# Altium schematic symbol library DSWB06LHGET.SCHLIB: 1 symbol
Pins are listed as number, name and electrical type; pins without a type are passive.

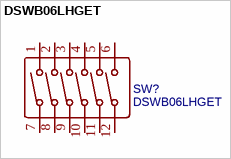
[diagram p0: symbol DSWB06LHGET]

## DSWB06LHGET
designator SW?
Manufacturer: YE; Contributor: LCSC; Supplier: LCSC; Supplier Part: C99416; Manufacturer Part: DSWB06LHGET; JLCPCB Part Class: Extended Part; spicePre: S; spiceSymbolName: DSWB06LHGET
footprint SW-TH_DSWB06LHGET
pins: 1, 2, 3, 4, 5, 6, 7, 8, 9, 10, 11, 12